# Altium schematic symbol library Schlib_WorldSemi.SchLib: 1 symbol
Pins are listed as number, name and electrical type; pins without a type are passive.

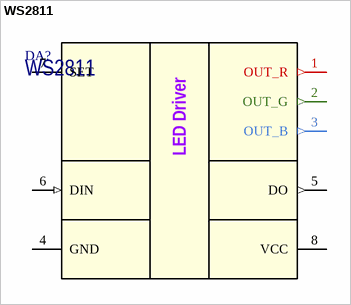
[diagram p0: symbol WS2811]

## WS2811
designator DA?
Signal line 256 Gray level 3 channel Constant current LED driver IC; Manufacturer: WorldSemi; Part Number: WS2811; Package: SOIC-8
footprint SOIC-8 (SOIC-8 package)
pins: 1 OUT_R (out), 2 OUT_G (out), 3 OUT_B (out), 4 GND (power), 5 DO (out), 6 DIN (in), 7 SET, 8 VCC (power)
text: LED Driver